# Altium footprint library ESP32-Sense Kit Motherboard.PcbLib: 23 footprints (part 1 of 2)
Each footprint in its own frame and in the unit in brackets; x right, y up, seen from the top. Pads: shape width x height; smd on the part's side, far side on the other; paste and mask are expansions set on the pad; w line width, h text height; cw(c..) or ccw(c..) is an arc to the next point about the centre after c.
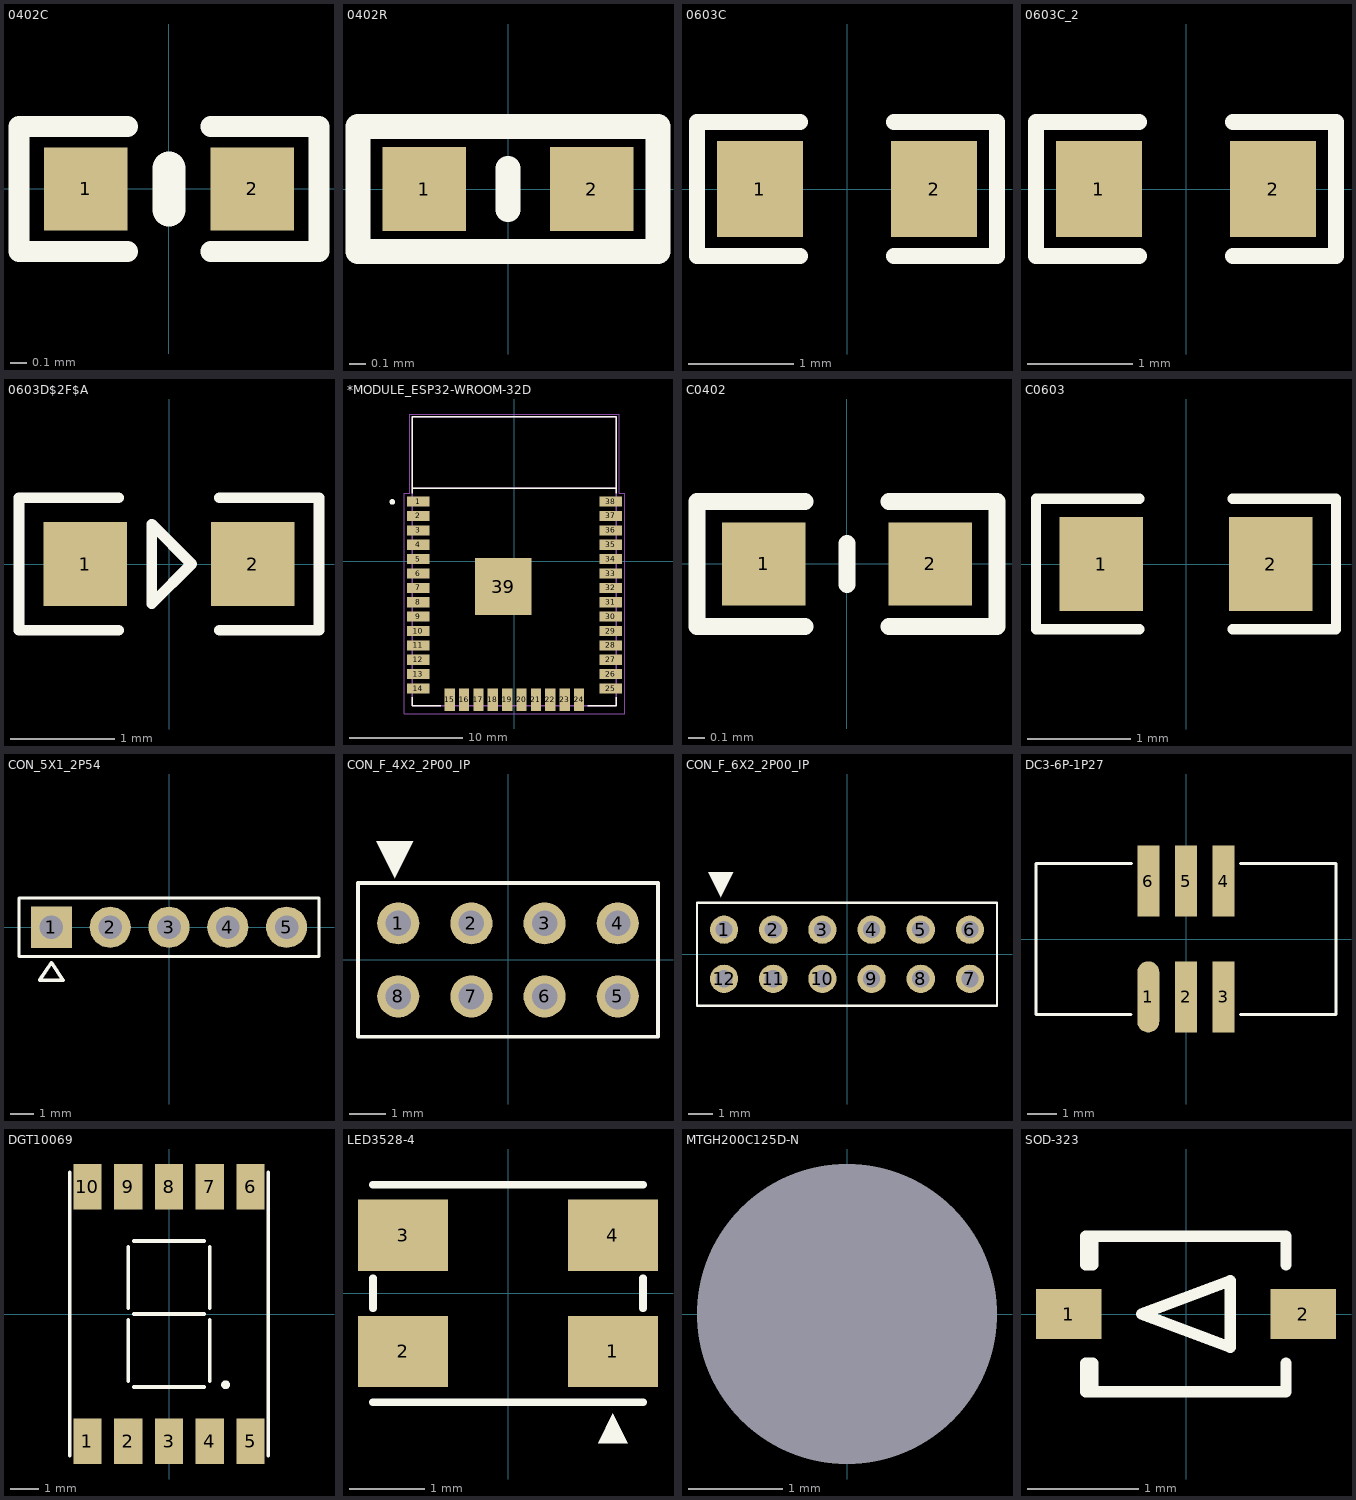
[diagram p0: the footprints below, top view; thin cyan lines are the x and y axes]

## 0402C [mil]
pads (2):
  rect 20x20 smd: 1(-20,0) 2(20,0)
Top Overlay:
  lines w5: -10,-15 -36,-15 -36,15 -10,15 ; 10,-15 36,-15 36,15 10,15
  lines w8: 0,-5 0,5
3D body "C0402_055.step": height 21.65, standoff 0, extent -19.68,-9.81 19.7,9.87

## 0402R [mil]
pads (2):
  rect 20x20 smd: 1(-20,0) 2(20,0)
Top Overlay:
  lines w5.91: 0,-5 0,5 ; -35.9,-14.98 -35.9,14.98 35.9,14.98 35.9,-14.98 -35.9,-14.98
3D body "STD(0402) M(1005).STEP": height 13.78, standoff 0, extent -19.89,-9.82 19.49,9.86

## 0603C [mil]
pads (2):
  rect 32x36 smd: 1(-32.5,0) 2(32.5,0)
Top Overlay:
  lines w6: -17.5,-25 -56,-25 -56,25 -17.5,25 ; 17.5,-25 56,-25 56,25 17.5,25
3D body "C0603_070.step": height 27.56, standoff 0, extent -31.45,-15.74 31.54,15.76

## 0603C_2 [mil]
pads (2):
  rect 32x36 smd: 1(-32.5,0) 2(32.5,0)
Top Overlay:
  lines w6: -17.5,-25 -56,-25 -56,25 -17.5,25 ; 17.5,-25 56,-25 56,25 17.5,25
3D body "C0603_070.step": height 27.56, standoff 0, extent -31.45,-15.74 31.54,15.76

## 0603D$2F$A [mm]
pads (2):
  rect 0.8x0.8 smd: 1(-0.8,0) 2(0.8,0)
Top Overlay:
  lines w0.102: -0.483,-0.635 -1.435,-0.635 -1.435,0.635 -0.483,0.635 ; 0.483,-0.635 1.435,-0.635 1.435,0.635 0.483,0.635 ; -0.166,-0.381 0.215,0 -0.166,0.382 -0.166,-0.381
3D body "LED 0603 single color.stp": height 0.7, standoff -0.01, extent -0.78,-0.391 0.82,0.396

## *MODULE_ESP32-WROOM-32D [mm]
pads (39):
  rect 2x0.9 smd: 1(-8.5,5.26) 2(-8.5,3.99) 3(-8.5,2.72) 4(-8.5,1.45) 5(-8.5,0.18) 6(-8.5,-1.09) 7(-8.5,-2.36) 8(-8.5,-3.63) 9(-8.5,-4.9) 10(-8.5,-6.17) 11(-8.5,-7.44) 12(-8.5,-8.71) 13(-8.5,-9.98) 14(-8.5,-11.25) 25(8.5,-11.25) 26(8.5,-9.98) 27(8.5,-8.71) 28(8.5,-7.44) 29(8.5,-6.17) 30(8.5,-4.9) 31(8.5,-3.63) 32(8.5,-2.36) 33(8.5,-1.09) 34(8.5,0.18) 35(8.5,1.45) 36(8.5,2.72) 37(8.5,3.99) 38(8.5,5.26)
  rect 0.9x2 smd: 15(-5.715,-12.25) 16(-4.445,-12.25) 17(-3.175,-12.25) 18(-1.905,-12.25) 19(-0.635,-12.25) 20(0.635,-12.25) 21(1.905,-12.25) 22(3.175,-12.25) 23(4.445,-12.25) 24(5.715,-12.25)
  rect 5x5 smd: 39(-1,-2.24)
Top Overlay:
  circle w0.3: c-10.777,5.238 r0.1
  lines w0.127: -9,-12 -9,-12.75 -6.5,-12.75 ; -9,6 -9,12.75 9,12.75 9,6 ; -8.96,6.45 8.96,6.45 ; 6.5,-12.75 9,-12.75 9,-12
Top Paste:
  region: -2.584,-0.659 0.581,-0.659 0.581,-3.825 -2.584,-3.825
Mechanical 4:
  circle w0.3: c-8.277,5.238 r0.1
  circle w0.3: c-8.277,5.238 r0.1
  lines w0.127: -9,-12.75 -9,12.75 ; -9,-12.75 9,-12.75 ; -9,-12.75 -9,12.75 ; -9,-12.75 9,-12.75 ; -9,12.75 9,12.75 ; -9,12.75 9,12.75 ; 9,-12.75 9,12.75 ; 9,-12.75 9,12.75 ; -8.96,6.45 8.96,6.45 -8.96,6.45
  text "ANTENNA" at -5.725,8.401 h1.88
  text "ANTENNA" at -5.725,8.401 h1.88
Mechanical 16:
  lines w0.05: -9.75,-13.5 -9.75,6 -9.25,6 -9.25,13 9.25,13 9.25,6 9.75,6 9.75,-13.5 -9.75,-13.5
3D body "ESP32 - WROOM - 32 v2-Altium.step": height 2.84, standoff -0.02, extent -9.008,-12.757 8.992,12.743

## C0402 [mil]
pads (2):
  rect 20x20 smd: 1(-20,0) 2(20,0)
Top Overlay:
  lines w4: -10,-15 -36,-15 -36,15 -10,15 ; 0,-5 0,5 ; 10,-15 36,-15 36,15 10,15
3D body "C0402_035.step": height 13.78, standoff 0, extent -19.65,-9.75 19.72,9.94

## C0603 [mil]
pads (2):
  rect 32x36 smd: 1(-32.5,0) 2(32.5,0)
Top Overlay:
  lines w4: -18,-25 -57.5,-25 -57.5,25 -18,25 ; 18,-25 57.5,-25 57.5,25 18,25
3D body "C0603_070.step": height 27.56, standoff 0, extent -31.64,-15.75 31.36,15.75

## CON_5X1_2P54 [mil]
pads (5):
  rect 70x70 / inner round 70 / far side round 70 hole 40: 1(-200,0)
  round 70 hole 40: 2(-100,0) 3(0,0) 4(100,0) 5(200,0)
Top Overlay:
  lines w5: -255,-50 -255,50 255,50 255,-50 -255,-50
  lines w6: -220,-90 -180,-90 -200,-60 -220,-90

## CON_F_4X2_2P00_IP [mm]
pads (8):
  round 1.15 hole 0.7: 1(-3,1) 2(-1,1) 3(1,1) 4(3,1) 5(3,-1) 6(1,-1) 7(-1,-1) 8(-3,-1)
Top Overlay:
  region: -3.098,2.226 -2.59,3.242 -3.606,3.242
  lines w0.102: -4.1,-2.1 -4.1,2.1 4.1,2.1 4.1,-2.1 -4.1,-2.1
3D body "SMM-104-01-S-D.stp": height 3.56, standoff -3.05, extent -3.994,-2.007 4.001,1.994

## CON_F_6X2_2P00_IP [mm]
pads (12):
  round 1.15 hole 0.7: 1(-5,1) 2(-3,1) 3(-1,1) 4(1,1) 5(3,1) 6(5,1) 7(5,-1) 8(3,-1) 9(1,-1) 10(-1,-1) 11(-3,-1) 12(-5,-1)
Top Overlay:
  region: -5.13,2.321 -4.622,3.337 -5.638,3.337
  lines w0.102: -6.1,-2.1 6.1,-2.1 6.1,2.1 -6.1,2.1 -6.1,-2.1
3D body "SMM-106-01-S-D.stp": height 3.56, standoff -3.05, extent -5.986,-2.004 6.008,1.997

## DC3-6P-1P27 [mm]
pads (6):
  rrect100% 0.74x2.4 smd: 1(-1.27,-1.95)
  rect 0.74x2.4 smd: 2(0,-1.95) 3(1.27,-1.95) 4(1.27,1.95) 5(0,1.95) 6(-1.27,1.95)
Top Overlay:
  lines w0.102: -1.85,-2.54 -5.055,-2.54 -5.055,2.54 -1.83,2.54 ; 1.83,-2.54 5.055,-2.54 5.055,2.54 1.83,2.54
3D body "ESHF-103-01-L-D-SM.stp": height 5.46, standoff 0, extent -7.052,-3.113 6.918,2.983

## DGT10069 [mm]
pads (10):
  rect 1x1.6 smd: 1(-2.88,-4.5) 2(-1.44,-4.5) 3(0,-4.5) 4(1.44,-4.5) 5(2.88,-4.5) 6(2.88,4.5) 7(1.44,4.5) 8(0,4.5) 9(-1.44,4.5) 10(-2.88,4.5)
Top Overlay:
  circle w0.15: c2,-2.5 r0.08
  lines w0.127: -3.5,-5 -3.5,5 ; -1.44,-2.38 -1.44,-0.2 ; -1.44,0.2 -1.44,2.38 ; -1.25,-2.58 1.25,-2.58 ; -1.25,0 1.25,0 ; -1.25,2.58 1.25,2.58 ; 1.44,-2.38 1.44,-0.2 ; 1.44,0.2 1.44,2.38 ; 3.5,-5 3.5,5
3D body "ACSX02-41.STEP": height 3.02, standoff -0.03, extent -3.444,-4.955 3.456,5.045

## LED3528-4 [mm]
pads (4):
  rect 1.2x0.95 smd: 1(1.4,-0.775) 2(-1.4,-0.775) 3(-1.4,0.775) 4(1.4,0.775)
Top Overlay:
  region: 1.4,-1.6 1.2,-2 1.6,-2
  lines w0.102: -1.8,-1.45 1.8,-1.45 ; -1.8,-0.2 -1.8,0.2 ; -1.8,1.45 1.8,1.45 ; 1.8,-0.2 1.8,0.2
3D body "ASMB-MTB0-0A3A2.STEP": height 1.9, standoff 0, extent -1.749,-1.403 1.751,1.397

## MTGH200C125D-N [mm]
pads (1):
  round 0 hole 3.2 unplated: 1(0,0)

## SOD-323 [mm]
pads (2):
  rect 0.59x0.45 smd: 1(-1.055,0) 2(1.055,0)
Top Overlay:
  lines w0.102: -0.903,-0.445 -0.903,-0.699 0.901,-0.699 0.901,-0.445 ; -0.903,0.445 -0.903,0.699 0.901,0.699 0.901,0.445 ; -0.877,-0.699 -0.877,-0.445 ; -0.877,0.445 -0.877,0.699 ; -0.864,-0.699 -0.864,-0.445 ; -0.864,0.445 -0.864,0.699 ; -0.839,-0.699 -0.839,-0.445 ; -0.839,0.445 -0.839,0.699 ; -0.401,0 0.399,-0.3 0.399,0.3 -0.401,0
3D body "SOD-323.STEP": height 1.17, standoff 0.02, extent -1.352,-0.739 1.348,0.708